# Altium footprint library SparkFun-Clocks.PCBLIB: 23 footprints (part 2 of 2)
Each footprint in its own frame and in the unit in brackets; x right, y up, seen from the top. Pads: shape width x height; smd on the part's side, far side on the other; paste and mask are expansions set on the pad; w line width, h text height; cw(c..) or ccw(c..) is an arc to the next point about the centre after c.
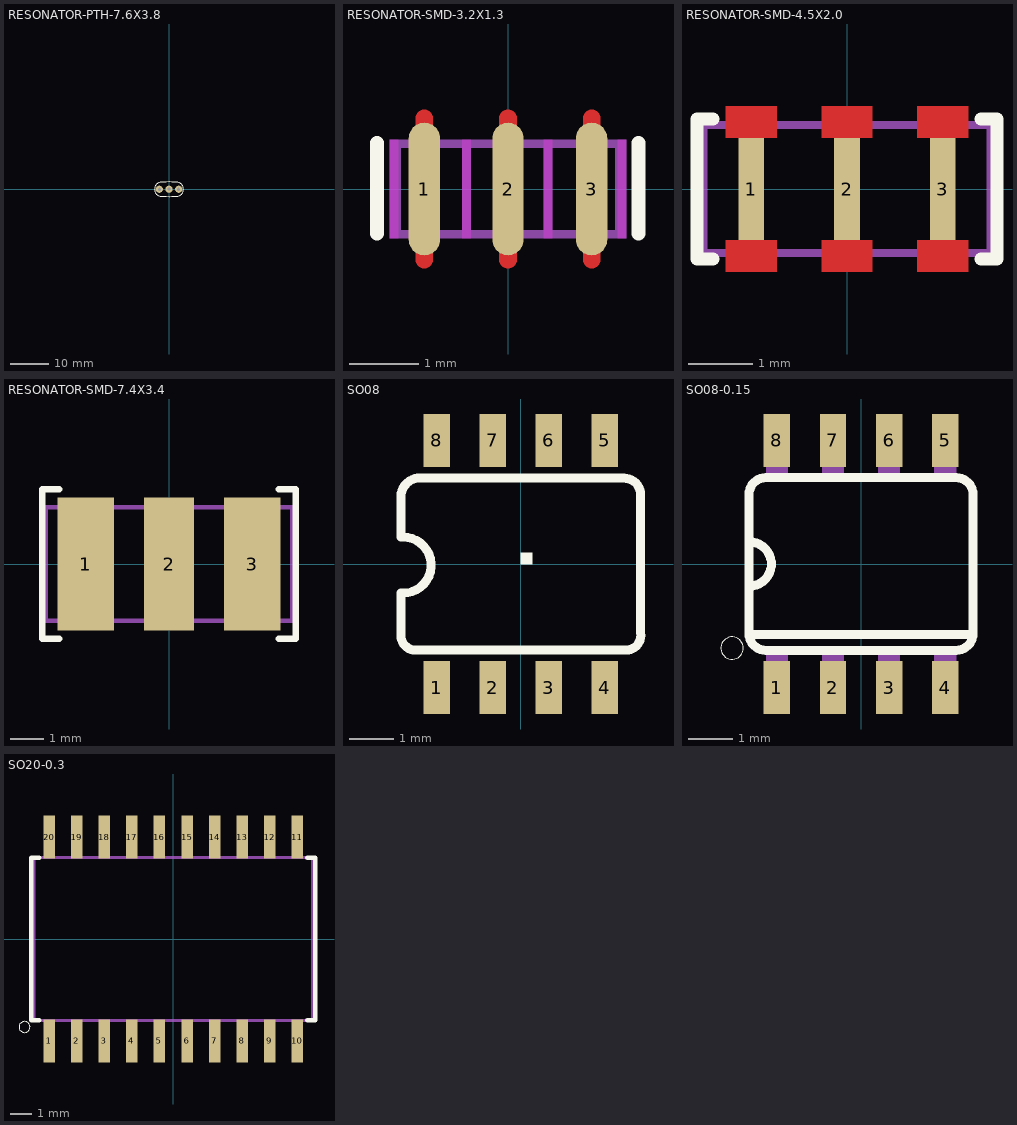
[diagram p1: the footprints below, top view; thin cyan lines are the x and y axes]

## RESONATOR-PTH-7.6X3.8 [mil]
pads (3):
  round 74 hole 31.5: 1(-100,0) 2(0,0) 3(100,0)
Top Overlay:
  lines w8: -90,-70 cw(c-79.17,0) -90,70 cw(c0,-735) 90,70 cw(c79.17,0) 90,-70 cw(c0,737.5) -90,-70

## RESONATOR-SMD-3.2X1.3 [mil]
pads (3):
  rrect100% 17.72x75 smd: 1(-47.24,0) 2(0,0) 3(47.24,0)
Top Layer:
  lines w10: -47.24,-40 -47.24,0 -47.24,40 ; 0,-40 0,0 0,40 ; 47.24,-40 47.24,0 47.24,40
Top Overlay:
  lines w8: -73.97,-25.19 -73.97,25.99 ; 73.67,-25.19 73.67,25.99
Top Solder:
  rectangle: -68.9,-30.3 68.7,30.1
Mechanical 8 keep-out:
  rectangle: -67,-28 -62,28
  rectangle: -26,-28 -21,28
  rectangle: 20,-28 25,28
  rectangle: 62,-28 67,28
Mechanical 16:
  lines w5: -62.99,-25.59 62.99,-25.59 62.99,25.59 -62.99,25.59 -62.99,-25.59
Mech84:
  drawing of 282 lines, arcs and shapes, not listed

## RESONATOR-SMD-4.5X2.0 [mil]
pads (3):
  rect 15.75x62.99 smd: 1(-59.06,0) 2(0,0) 3(59.06,0)
Top Layer:
  rectangle: -15.75,31.5 15.75,51.18
  rectangle: -15.75,-51.18 15.75,-31.5
  rectangle: -74.8,31.5 -43.31,51.18
  rectangle: -74.8,-51.18 -43.31,-31.5
  rectangle: 43.31,31.5 74.8,51.18
  rectangle: 43.31,-51.18 74.8,-31.5
Top Overlay:
  lines w8: -82.68,-43.31 -92.52,-43.31 -92.52,43.31 -82.68,43.31 ; 82.68,-43.31 92.52,-43.31 92.52,43.31 82.68,43.31
Top Paste:
  rectangle: -74.8,31.5 -43.31,51.18
  rectangle: -15.75,31.5 15.75,51.18
  rectangle: 43.31,31.5 74.8,51.18
  rectangle: -74.8,-51.18 -43.31,-31.5
  rectangle: -15.75,-51.18 15.75,-31.5
  rectangle: 43.31,-51.18 74.8,-31.5
Top Solder:
  rectangle: -78.74,27.56 -39.37,55.12
  rectangle: -19.69,27.56 19.69,55.12
  rectangle: 39.37,27.56 78.74,55.12
  rectangle: 39.37,-55.12 78.74,-27.56
  rectangle: -19.69,-55.12 19.69,-27.56
  rectangle: -78.74,-55.12 -39.37,-27.56
Mechanical 16:
  lines w5: -88.58,-39.37 88.58,-39.37 88.58,39.37 -88.58,39.37 -88.58,-39.37

## RESONATOR-SMD-7.4X3.4 [mm]
pads (3):
  rect 1.7x4 smd: 1(-2.5,0) 3(2.5,0)
  rect 1.5x4 smd: 2(0,0)
Top Overlay:
  lines w0.203: -3.3,-2.245 -3.8,-2.245 -3.8,2.245 -3.3,2.245 ; 3.3,-2.245 3.8,-2.245 3.8,2.245 3.3,2.245
Mechanical 16:
  region: 0,0 0.254,0 0.254,0.254 0,0.254
  region: 0,0 0.254,0 0.254,0.254 0,0.254
  region: 0,0 0.254,0 0.254,0.254 0,0.254
  lines w0.127: -3.7,-1.7 3.7,-1.7 3.7,1.7 -3.7,1.7 -3.7,-1.7

## SO08 [mil]
pads (8):
  rect 23.62x47.24 smd: 1(-75,-110.24) 2(-25,-110.24) 3(25,-110.24) 4(75,-110.24) 5(75,110.24) 6(25,110.24) 7(-25,110.24) 8(-75,110.24)
Top Overlay:
  region: 0,0 10,0 10,10 0,10
  lines w8: -107,-26 -107,-65.56 ccw(c-93.97,-63.6) -92,-76.63 95.94,-76.63 ccw(c93.97,-63.6) 107,-61.63 107,61.63 ccw(c92,61.63) 92,76.63 -92,76.63 ccw(c-90.03,59.66) -107,57.69 ; -107,24 -107,57.19 ; -105,-26 ccw(c-105,-1) -105,24
Mechanical 16:
  rectangle: -85,-130 -65,-89.5
  rectangle: -35,-130 -15,-89.5
  rectangle: 15,-130 35,-89.5
  rectangle: 65,-130 85,-89.5
  rectangle: -35,90 -15,130
  rectangle: 15,90 35,130
  rectangle: 65,90 85,130
  rectangle: -85,90 -65,130

## SO08-0.15 [mil]
pads (8):
  rect 23.62x47.24 smd: 1(-75,-110.24) 2(-25,-110.24) 3(25,-110.24) 4(75,-110.24) 5(75,110.24) 6(25,110.24) 7(-25,110.24) 8(-75,110.24)
Top Overlay:
  circle w0: c-115,-75 r10
  lines w8: -100,-63 100,-63 ; -100,-20 -100,20 ; -100,-20 -100,-62 ccw(c-85,-62) -85,-77 85,-77 ccw(c85,-62) 100,-62 100,62 ccw(c85,62) 85,77 -85,77 ccw(c-85,62) -100,62 -100,20 ; -100,-20 ccw(c-100,0) -100,20
Mechanical 16:
  rectangle: 65,77 85,122
  rectangle: -85,-122 -65,-77
  rectangle: -35,-122 -15,-77
  rectangle: 15,-121 35,-76
  rectangle: 65,-122 85,-77
  rectangle: 15,77 35,122
  rectangle: -35,77 -15,122
  rectangle: -85,77 -65,122

## SO20-0.3 [mil]
pads (20):
  rect 20.87x77.95 smd: 1(-225,-184.45) 2(-175,-184.45) 3(-125,-184.45) 4(-75,-184.45) 5(-25,-184.45) 6(25,-184.45) 7(75,-184.45) 8(125,-184.45) 9(175,-184.45) 10(225,-184.45) 11(225,184.45) 12(175,184.45) 13(125,184.45) 14(75,184.45) 15(25,184.45) 16(-25,184.45) 17(-75,184.45) 18(-125,184.45) 19(-175,184.45) 20(-225,184.45)
Top Overlay:
  circle w0: c-269.41,-159.37 r10
  lines w8: -243,-147.5 -257,-147.5 -257,147.5 -243,147.5 ; 243,-147.5 257,-147.5 257,147.5 243,147.5
Mechanical 16:
  rectangle: 16.93,147.5 33.46,203.25
  rectangle: -33.07,147.5 -16.54,203.25
  rectangle: -83.07,147.5 -66.54,203.25
  rectangle: -133.07,147.5 -116.54,203.25
  rectangle: -183.07,147.5 -166.54,203.25
  rectangle: -233.07,147.5 -216.54,203.25
  rectangle: 66.93,147.5 83.46,203.25
  rectangle: 116.93,147.5 133.46,203.25
  rectangle: 166.93,147.5 183.46,203.25
  rectangle: 216.93,147.5 233.46,203.25
  region: -216.93,-147.5 -233.46,-147.5 -233.46,-203.25 -216.93,-203.25
  region: -166.93,-147.5 -183.46,-147.5 -183.46,-203.25 -166.93,-203.25
  region: -116.93,-147.5 -133.46,-147.5 -133.46,-203.25 -116.93,-203.25
  region: -66.93,-147.5 -83.46,-147.5 -83.46,-203.25 -66.93,-203.25
  region: -16.93,-147.5 -33.46,-147.5 -33.46,-203.25 -16.93,-203.25
  region: 33.07,-147.5 16.54,-147.5 16.54,-203.25 33.07,-203.25
  region: 83.07,-147.5 66.54,-147.5 66.54,-203.25 83.07,-203.25
  region: 133.07,-147.5 116.54,-147.5 116.54,-203.25 133.07,-203.25
  region: 183.07,-147.5 166.54,-147.5 166.54,-203.25 183.07,-203.25
  region: 233.07,-147.5 216.54,-147.5 216.54,-203.25 233.07,-203.25
  lines w5: -252,-147.5 252,-147.5 252,147.5 -252,147.5 -252,-147.5